# Altium integrated library smartmcu.IntLib: 22 symbols
Pins are listed as number, name and electrical type; pins without a type are passive.

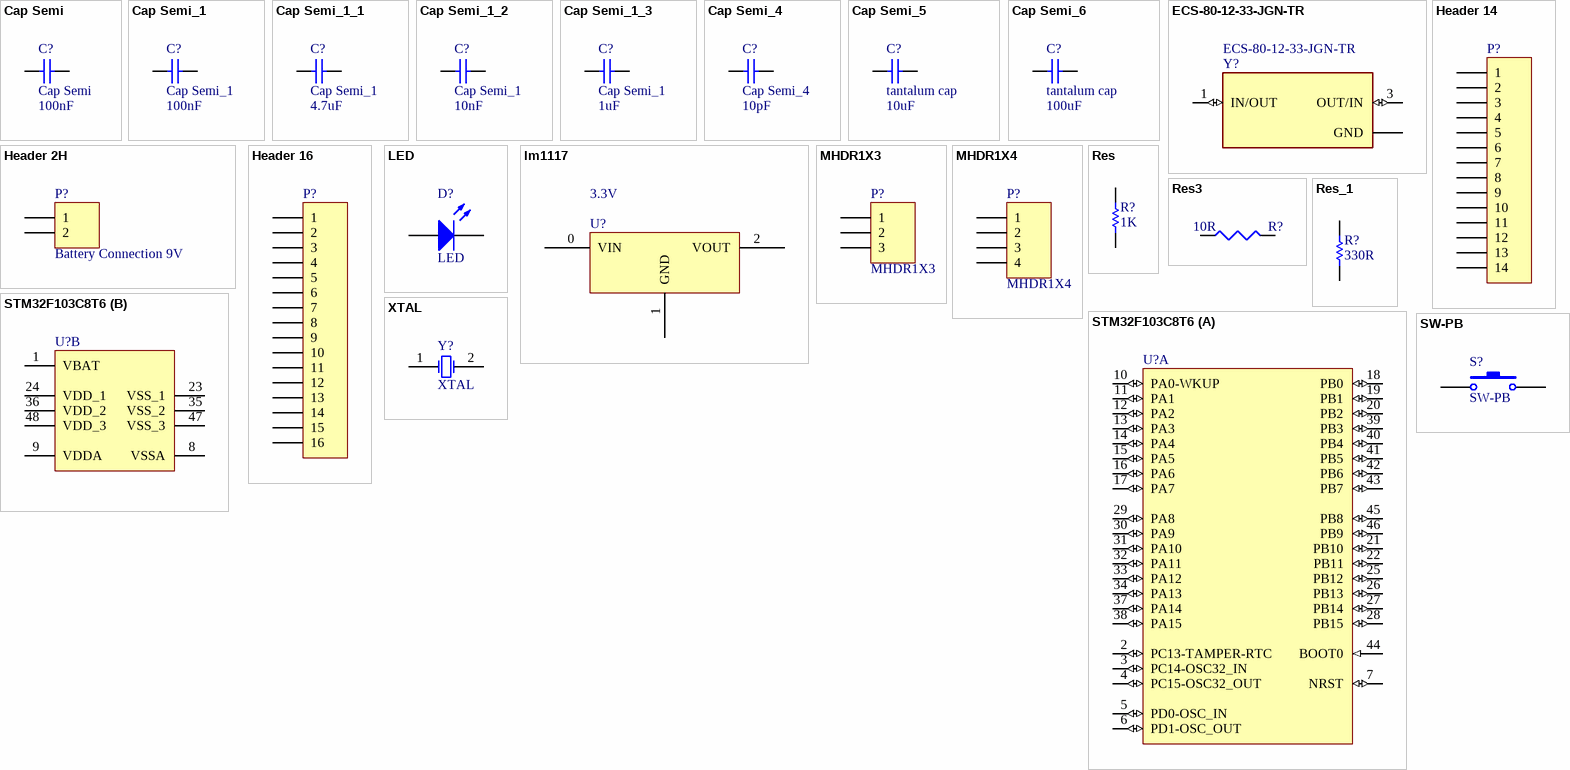
[diagram p0: symbols Cap Semi to XTAL]

## Cap Semi
designator C?  value 100nF
Capacitor (Semiconductor SIM Model); Published: 8-Jun-2000; LatestRevisionDate: 29-May-2009; LatestRevisionNote: IPC-7351 Footprint Added.; PackageReference: C1206; Publisher: Altium Limited; PackageDescription: Chip Capacitor
footprint 1608[0603]cap
pins: 1, 2

## Cap Semi_1
designator C?  value 100nF
Capacitor (Semiconductor SIM Model); Published: 8-Jun-2000; LatestRevisionDate: 29-May-2009; LatestRevisionNote: IPC-7351 Footprint Added.; PackageReference: C1206; Publisher: Altium Limited; PackageDescription: Chip Capacitor
footprint 1608[0603]cap
pins: 1, 2

## Cap Semi_1_1
designator C?, comment Cap Semi_1  value 4.7uF
Capacitor (Semiconductor SIM Model); Published: 8-Jun-2000; LatestRevisionDate: 29-May-2009; LatestRevisionNote: IPC-7351 Footprint Added.; PackageReference: C1206; Publisher: Altium Limited; PackageDescription: Chip Capacitor
footprint 1608[0603]cap
pins: 1, 2

## Cap Semi_1_2
designator C?, comment Cap Semi_1  value 10nF
Capacitor (Semiconductor SIM Model); Published: 8-Jun-2000; LatestRevisionDate: 29-May-2009; LatestRevisionNote: IPC-7351 Footprint Added.; PackageReference: C1206; Publisher: Altium Limited; PackageDescription: Chip Capacitor
footprint 1608[0603]cap
pins: 1, 2

## Cap Semi_1_3
designator C?, comment Cap Semi_1  value 1uF
Capacitor (Semiconductor SIM Model); Published: 8-Jun-2000; LatestRevisionDate: 29-May-2009; LatestRevisionNote: IPC-7351 Footprint Added.; PackageReference: C1206; Publisher: Altium Limited; PackageDescription: Chip Capacitor
footprint 1608[0603]cap
pins: 1, 2

## Cap Semi_4
designator C?  value 10pF
Capacitor (Semiconductor SIM Model); Published: 8-Jun-2000; LatestRevisionDate: 29-May-2009; LatestRevisionNote: IPC-7351 Footprint Added.; PackageReference: C1206; Publisher: Altium Limited; PackageDescription: Chip Capacitor
footprint 0402cap
pins: 1, 2

## Cap Semi_5
designator C?, comment tantalum cap  value 10uF
Capacitor (Semiconductor SIM Model); Published: 8-Jun-2000; LatestRevisionDate: 29-May-2009; LatestRevisionNote: IPC-7351 Footprint Added.; PackageReference: C1206; Publisher: Altium Limited; PackageDescription: Chip Capacitor
footprint C1206tancap
pins: 1, 2

## Cap Semi_6
designator C?, comment tantalum cap  value 100uF
Capacitor (Semiconductor SIM Model); Published: 8-Jun-2000; LatestRevisionDate: 29-May-2009; LatestRevisionNote: IPC-7351 Footprint Added.; PackageReference: C1206; Publisher: Altium Limited; PackageDescription: Chip Capacitor
footprint C1206tancap
pins: 1, 2

## ECS-80-12-33-JGN-TR
designator Y?
8MHz Â±20ppm Crystal 12pF 400 Ohms 4-SMD, No Lead; MF: ECS Inc.; Value: *; Package: SMD-4 ECS International; MP: ECS-80-12-33-JGN-TR; Availability: Warning; Price: None; SnapEDA_Link: https://www.snapeda.com/parts/ECS-80-12-33-JGN-TR/ECS%20Inc./view-part/4477300/?ref=snap; Mouser-Purchase-URL: https://snapeda.com/shop?store=Mouser&id=4477300; BuyPart: https://www.snapeda.com/parts/ECS-80-12-33-JGN-TR/ECS%20Inc./view-part/4477300/?ref=eda
footprint 8MHZCrystall
pins: 1 IN/OUT (io), 2 GND (power), 3 OUT/IN (io), 4 GND (power)

## Header 2H
designator P?, comment Battery Connection 9V
Header, 2-Pin, Right Angle; LatestRevisionDate: 17-Jul-2002; LatestRevisionNote: Re-released for DXP Platform.; Publisher: Altium Limited; Voltage: 9V
footprint HDR1X2H3dbody
pins: 1, 2

## Header 14
designator P?  (value not drawn)
Header, 14-Pin; ASiD Part Number: Header 14-AS
footprint My_1X14
signal-integrity model Connector
footprint MY_FE14
footprint MY_FE14W
footprint MY_MA14-1W
pins: 1, 2, 3, 4, 5, 6, 7, 8, 9, 10, 11, 12, 13, 14

## Header 16
designator P?  (value not drawn)
Header, 16-Pin; ASiD Part Number: Header 16-AS
footprint My_1X16
signal-integrity model Connector
footprint MY_FE16
footprint MY_FE16W
footprint MY_MA16-1W
pins: 1, 2, 3, 4, 5, 6, 7, 8, 9, 10, 11, 12, 13, 14, 15, 16

## LED
designator D?
Typical INFRARED GaAs LED; ASiD Part Number: LED-AS
footprint My_LED3MM
footprint MY_LED5MM
footprint MY_SQ_LED
footprint MY_LED_0805
footprint MY_LED_1206
pins: A, K

## lm1117
designator U?  output voltag: 3.3V
The LM1117 is a low dropout voltage regulator with a / dropout of 1.2 V at 800 mA of load current. / The LM1117 is available in an adjustable version, / which can set the output voltage from 1.25 to 13.8 V / with only two external resistors. In addition, it is / available in five fixed voltages, 1.8 V, 2.5 V, 3.3 V, / and 5 V. / The LM1117 offers current limiting and thermal / shutdown. Its circuit includes a Zener trimmed / bandgap reference to assure output voltage accuracy / to within ±1%. / A minimum of 10-µF tantalum capacitor is required at / the output to improve the transient response and / stability.; ComponentLink1Description: datasheet; ComponentLink1URL: https://www.ti.com/lit/gpn/lm1117
footprint 4-Pin SOT
pins: 0 VIN, 1 GND, 2 VOUT

## MHDR1X3
designator P?
Header, 3-Pin; LatestRevisionDate: 17-Jul-2002; LatestRevisionNote: Re-released for DXP Platform.; Publisher: Altium Limited
footprint MHDR1X3body
pins: 1, 2, 3

## MHDR1X4
designator P?
Header, 4-Pin; LatestRevisionDate: 17-Jul-2002; LatestRevisionNote: Re-released for DXP Platform.; Publisher: Altium Limited
footprint MHDR1X4body
pins: 1, 2, 3, 4

## Res
designator R?, comment 1K
Standard resistor; ASiD Part Number: Res-AS; Value: 1K
footprint MY_1206
footprint MY_0805
footprint MY_1210
footprint MY_1310
footprint MY_1608
footprint MY_1812
footprint MY_1825
footprint MY_2012
footprint MY_2220
footprint MY_2225
footprint MY_3216
footprint MY_3225
footprint MY_4532
footprint MY_4564
footprint MY_0201
footprint MY_0402
footprint MY_0603
footprint MY_(0.25w)_0207V
footprint MY_(0.25w)_0207_10
footprint MY_0309V
footprint MY_0309_12
footprint MY_0414V
footprint MY_0414_15
footprint MY_(0.5w)_0411V
footprint MY_(0.5w)_0411_15
footprint MY_(1w)_0613V
footprint MY_(1w)_0613_15
footprint MY_(2w)_0617V
footprint MY_(2w)_0617_22
footprint MY_(3w)_0817V
footprint MY_(3w)_0817_22
footprint MY_(5w)_0922V
footprint MY_(5w)_0922_22
footprint MY_2010
footprint MY_1218
footprint MY_2512 (R2512)
pins: 1, 2

## Res3
designator R?  value 10R  (hidden comment: Res3)
Resistor; Published: 8-Jun-2000; LatestRevisionDate: 29-May-2009; LatestRevisionNote: IPC-7351 Footprint Added.; PackageReference: J1-0603; Publisher: Altium Limited; PackageDescription: Chip Resistor
footprint J1-0603 (Chip Resistor, Body 1.6x0.8mm, IPC High Density)
footprint 14-1210 (Chip Resistor, Body 3.2x2.5mm, IPC High Density)
footprint 12Z-2010 (Chip Resistor, Body 5.0x2.5mm, IPC High Density)
footprint RESC6332 (Chip Resistor, Body 6.3x3.2mm, IPC High Density)
simulation model RESISTOR (Resistor)
signal-integrity model Res
pins: 1, 2

## Res_1
designator R?, comment 330R
Standard resistor; ASiD Part Number: Res-AS; Value: 330R
footprint MY_1206
footprint MY_0805
footprint MY_1210
footprint MY_1310
footprint MY_1608
footprint MY_1812
footprint MY_1825
footprint MY_2012
footprint MY_2220
footprint MY_2225
footprint MY_3216
footprint MY_3225
footprint MY_4532
footprint MY_4564
footprint MY_0201
footprint MY_0402
footprint MY_0603
footprint MY_(0.25w)_0207V
footprint MY_(0.25w)_0207_10
footprint MY_0309V
footprint MY_0309_12
footprint MY_0414V
footprint MY_0414_15
footprint MY_(0.5w)_0411V
footprint MY_(0.5w)_0411_15
footprint MY_(1w)_0613V
footprint MY_(1w)_0613_15
footprint MY_(2w)_0617V
footprint MY_(2w)_0617_22
footprint MY_(3w)_0817V
footprint MY_(3w)_0817_22
footprint MY_(5w)_0922V
footprint MY_(5w)_0922_22
footprint MY_2010
footprint MY_1218
footprint MY_2512 (R2512)
pins: 1, 2

## STM32F103C8T6
designator U?
ARM Cortex-M3 32-bit MCU, 64 KB Flash, 20 KB Internal RAM, 37 I/Os, 48-pin LQFP, -40 to 85 degC, Tray; PartNumber: STM32F103C8T6; A/D Converter: 2x12-bit (10 Channel); FLASH Size (Prog) (kB): 64; I/Os (High Current): 37; Internal RAM Size (kB): 20; Operating Frequency(F) (Processor speed) (MHz): 72; Supply Voltage(Vcc) min (V): 2; DatasheetVersion: Rev. 16; PackageVersion: Rev. 6, 06/2013; PackageReference: LQFP48; PackageDescription: 48-Pin Low Profile Quad Flat Package, 7 x 7 mm Body, 0.5 mm Pitch; Supplier 1: Digi-Key; Supplier Part Number 1: 497-6063-ND; Supplier 2: Farnell; Supplier Part Number 2: 1447637; Supplier 3: Newark; Supplier Part Number 3: 59M2182; Supplier 4: Newark; Supplier Part Number 4: 57P1222; Supplier 5: Mouser; Supplier Part Number 5: 511-STM32F103C8T6; Core: ARM Cortex-M3; Packing: Tray; Mounting Technology: Surface Mount; ComponentLink1Description: Manufacturer URL; ComponentLink1URL: http://www.st.com/web/en/home.html; ComponentLink2Description: Datasheet; ComponentLink2URL: http://www.st.com/st-web-ui/static/active/en/resource/technical/document/datasheet/CD00161566.pdf; ComponentLink3Description: Package Specification; ComponentLink3URL: http://www.st.com/st-web-ui/static/active/en/resource/technical/document/datasheet/DM00058181.pdf
footprint STM-LQFP48_N (QFP, 48-Leads, Body 7x7mm, Pitch 0.5mm, IPC Medium Density)
footprint STM-LQFP48_L (QFP, 48-Leads, Body 7x7mm, Pitch 0.5mm, IPC High Density)
footprint STM-LQFP48_M (QFP, 48-Leads, Body 7x7mm, Pitch 0.5mm, IPC Low Density)
part A pins: 2 PC13-TAMPER-RTC (io) "PC13-TAMPER-RTC/PC13/TAMPER-RTC", 3 PC14-OSC32_IN (io) "PC14-OSC32_IN/PC14/OSC32_IN", 4 PC15-OSC32_OUT (io) "PC15-OSC32_OUT/PC15/OSC32_OUT", 5 PD0-OSC_IN (io) "PD0/OSC_IN", 6 PD1-OSC_OUT (io) "PD1/OSC_OUT", 7 NRST (io), 10 PA0-WKUP (io) "PA0-WKUP/PA0/WKUP/USART2_CTS/ADC12_IN0/TIM2_CH1_ETR", 11 PA1 (io) "PA1/USART2_RTS/ADC12_IN1/TIM2_CH2", 12 PA2 (io) "PA2/USART2_TX/ADC12_IN2/TIM2_CH3", 13 PA3 (io) "PA3/USART2_RX/ADC12_IN3/TIM2_CH4", 14 PA4 (io) "PA4/SPI1_NSS/USART2_CK/ADC12_IN4", 15 PA5 (io) "PA5/SPI1_SCK/ADC12_IN5", 16 PA6 (io) "PA6/SPI1_MISO/ADC12_IN6/TIM3_CH1/TIM1_BKIN", 17 PA7 (io) "PA7/SPI1_MOSI/ADC12_IN7/TIM3_CH2/TIM1_CH1N", 18 PB0 (io) "PB0/ADC12_IN8/TIM3_CH3/TIM1_CH2N", 19 PB1 (io) "PB1/ADC12_IN9/TIM3_CH4/TIM1_CH3N", 20 PB2 (io) "PB2/BOOT1", 21 PB10 (io) "PB10/I2C2_SCL/USART3_TX/TIM2_CH3", 22 PB11 (io) "PB11/I2C2_SDA/USART3_RX/TIM2_CH4", 25 PB12 (io) "PB12/SPI2_NSS/I2C2_SMBAl/USART3_CK/TIM1_BKIN", 26 PB13 (io) "PB13/SPI2_SCK/USART3_CTS/TIM1_CH1N", 27 PB14 (io) "PB14/SPI2_MISO/USART3_RTS/TIM1_CH2N", 28 PB15 (io) "PB15/SPI2_MOSI/TIM1_CH3N", 29 PA8 (io) "PA8/USART1_CK/TIM1_CH1/MCO", 30 PA9 (io) "PA9/USART1_TX/TIM1_CH2", 31 PA10 (io) "PA10/USART1_RX/TIM1_CH3", 32 PA11 (io) "PA11/USART1_CTS/CANRX/USBDM/TIM1_CH4", 33 PA12 (io) "PA12/USART1_RTS/CANTX/USBDP/TIM1_ETR", 34 PA13 (io) "PA13/JTMS/SWDIO", 37 PA14 (io) "PA14/JTCK/SWCLK", 38 PA15 (io) "PA15/JTDI/TIM2_CH1_ETR/SPI1_NSS", 39 PB3 (io) "PB3/JTDO/TIM2_CH2/TRACESWO/SPI1_SCK", 40 PB4 (io) "PB4/NJTRST/TIM3_CH1/SPI1_MISO", 41 PB5 (io) "PB5/I2C1_SMBAI/TIM3_CH2/SPI1_MOSI", 42 PB6 (io) "PB6/I2C1_SCL/TIM4_CH1/USART1_TX", 43 PB7 (io) "PB7/I2C1_SDA/TIM4_CH2/USART1_RX", 44 BOOT0 (in), 45 PB8 (io) "PB8/TIM4_CH3/I2C1_SCL/CANRX", 46 PB9 (io) "PB9/TIM4_CH4/I2C1_SDA/CANTX"
part B pins: 1 VBAT (power), 8 VSSA (power), 9 VDDA (power), 23 VSS_1 (power), 24 VDD_1 (power), 35 VSS_2 (power), 36 VDD_2 (power), 47 VSS_3 (power), 48 VDD_3 (power)

## SW-PB
designator S?
Switch; Published: 24-Mar-1999; LatestRevisionDate: 17-Jul-2002; LatestRevisionNote: Re-released for DXP Platform.; PackageReference: SPST-2; Publisher: Altium Limited; PackageDescription: Switch; 2 Leads
footprint SPST-2_body
pins: 1, 2

## XTAL
designator Y?
Crystal Oscillator; Published: 8-Jun-2000; LatestRevisionDate: 17-Jul-2002; LatestRevisionNote: Re-released for DXP Platform.; PackageReference: R38; Publisher: Altium Limited; PackageDescription: Crystal, Thru-Hole; 2 Leads; Body 3.1 x 8.2 mm (Dia.xH)
footprint 32768
pins: 1 OSC1, 2 OSC2